# Altium integrated library CRCW06030000Z0EA.IntLib: 1 symbol
Pins are listed as number, name and electrical type; pins without a type are passive.

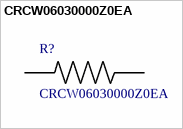
[diagram p0: symbol CRCW06030000Z0EA]

## CRCW06030000Z0EA
designator R?
CRCW Series 0603 0.1 W 0 Ohm Jumper Surface Mount Thick Film Chip Resistor; MF: Vishay; SnapEDA_Link: https://www.snapeda.com/parts/CRCW06030000Z0EA/Vishay%20Dale/view-part/?ref=snap; Digi-Key_Part_Number: 541-0.0GCT-ND; Digi-Key_Purchase_URL: https://www.digikey.com/product-detail/en/vishay-dale/CRCW06030000Z0EA/541-0.0GCT-ND/1179296?utm_source=snapeda&utm_medium=aggregator&utm_campaign=symbol; Package: 1508 Vishay; MP: CRCW06030000Z0EA; Value: *
footprint *RESC1508X50N
pins: 1, 2